# Altium schematic symbol library SR4G008.SchLib: 1 symbol
Pins are listed as number, name and electrical type; pins without a type are passive.

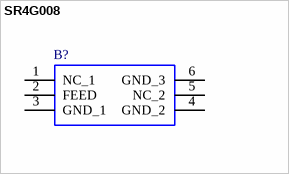
[diagram p0: symbol SR4G008]

## SR4G008
designator B?
Antennas 1559-1609MHz Avg. Eff >75% Linear; Manufacturer_Name: Antenova; Manufacturer_Part_Number: SR4G008; Mouser Part Number: 237-SR4G008; Mouser Price/Stock: https://www.mouser.co.uk/ProductDetail/Antenova/SR4G008?qs=vyIerDHf%2Fmn%2FnBMYNSbzrA%3D%3D; Arrow Part Number: SR4G008; Arrow Price/Stock: https://www.arrow.com/en/products/sr4g008/antenova?region=nac; Mouser Testing Part Number: *; Mouser Testing Price/Stock: *; Datasheet Link: https://componentsearchengine.com/Datasheets/1/SR4G008.pdf
footprint SR4G008
pins: 1 NC_1, 2 FEED, 3 GND_1, 4 GND_2, 5 NC_2, 6 GND_3